# Altium footprint library PcbLib1.PcbLib: 54 footprints (part 4 of 4)
Each footprint in its own frame and in the unit in brackets; x right, y up, seen from the top. Pads: shape width x height; smd on the part's side, far side on the other; paste and mask are expansions set on the pad; w line width, h text height; cw(c..) or ccw(c..) is an arc to the next point about the centre after c.
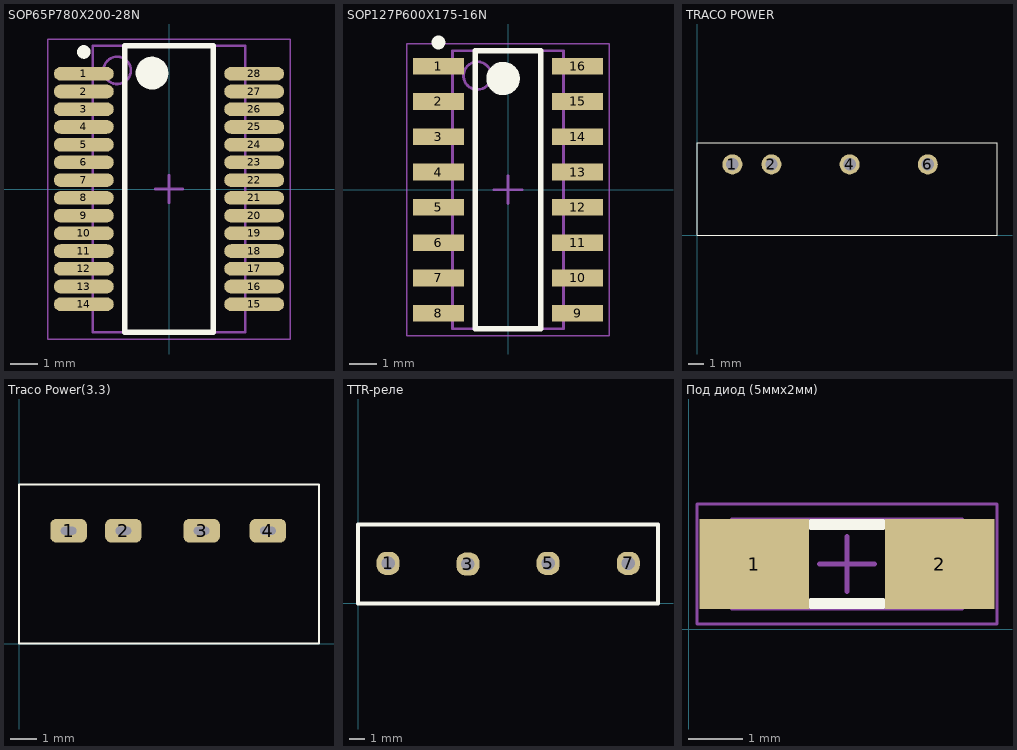
[diagram p3: the footprints below, top view; thin cyan lines are the x and y axes]

## SOP65P780X200-28N [mm] "SOP, 28-Leads, Body 10,20x5,30mm, Pitch 0,65mm, IPC Medium Density"
height 2
pads (28):
  oval 2.2x0.5 smd: 1(-3.125,4.225) 2(-3.125,3.575) 3(-3.125,2.925) 4(-3.125,2.275) 5(-3.125,1.625) 6(-3.125,0.975) 7(-3.125,0.325) 8(-3.125,-0.325) 9(-3.125,-0.975) 10(-3.125,-1.625) 11(-3.125,-2.275) 12(-3.125,-2.925) 13(-3.125,-3.575) 14(-3.125,-4.225) 15(3.125,-4.225) 16(3.125,-3.575) 17(3.125,-2.925) 18(3.125,-2.275) 19(3.125,-1.625) 20(3.125,-0.975) 21(3.125,-0.325) 22(3.125,0.325) 23(3.125,0.975) 24(3.125,1.625) 25(3.125,2.275) 26(3.125,2.925) 27(3.125,3.575) 28(3.125,4.225)
Top Overlay:
  circle w0.6: c-0.625,4.25 r0.3
  circle w0.25: c-3.125,5.025 r0.125
  lines w0.2: -1.625,-5.25 1.625,-5.25 1.625,5.25 -1.625,5.25 -1.625,-5.25
Mechanical 13:
  circle w0.1: c-1.9,4.35 r0.5
  lines w0.1: -2.8,-5.25 2.8,-5.25 2.8,5.25 -2.8,5.25 -2.8,-5.25
Mechanical 15:
  lines w0.05: -4.45,-5.5 4.45,-5.5 4.45,5.5 -4.45,5.5 -4.45,-5.5
  lines w0.1: -0.5,0 0.5,0 ; 0,-0.5 0,0.5
3D body: height 2, standoff 0.05, extent -2.8,-5.25 2.8,5.25

## SOP127P600X175-16N [mm] "SOP, 16-Leads, Body 9,90x3,90mm, Pitch 1,27mm, IPC Medium Density"
height 1.75
pads (16):
  rect 1.85x0.6 smd: 1(-2.5,4.445) 2(-2.5,3.175) 3(-2.5,1.905) 4(-2.5,0.635) 5(-2.5,-0.635) 6(-2.5,-1.905) 7(-2.5,-3.175) 8(-2.5,-4.445) 9(2.5,-4.445) 10(2.5,-3.175) 11(2.5,-1.905) 12(2.5,-0.635) 13(2.5,0.635) 14(2.5,1.905) 15(2.5,3.175) 16(2.5,4.445)
Top Overlay:
  circle w0.25: c-2.5,5.295 r0.125
  circle w0.6: c-0.175,4 r0.3
  lines w0.2: -1.175,-5 -1.175,5 1.175,5 1.175,-5 -1.175,-5
Mechanical 13:
  circle w0.1: c-1.1,4.1 r0.5
  lines w0.1: -2,-5 -2,5 2,5 2,-5 -2,-5
Mechanical 15:
  lines w0.05: -3.65,-5.25 -3.65,5.25 3.65,5.25 3.65,-5.25 -3.65,-5.25
  lines w0.1: -0.5,0 0.5,0 ; 0,-0.5 0,0.5
3D body: height 1.75, standoff 0.1, extent -2,-5 2,5

## TRACO POWER [mm]
height 10.2
pads (4):
  round 1.3 hole 0.8: 1(2.3,4.6) 2(4.84,4.6) 4(9.92,4.6) 6(15,4.6)
Top Overlay:
  lines w0.08: 0,0 0,6 19.5,6 19.5,0 0,0

## Traco Power(3.3) [mm]
height 10.2
pads (4):
  rrect50% 1.4x0.9 hole 0.3 slot 0.6 at 0 deg: 1(1.9,4.325) 2(4,4.325) 3(7,4.325) 4(9.54,4.325)
Top Overlay:
  lines w0.08: 0,0 11.5,0 11.5,6.1 0,6.1 0,0

## TTR-реле [mm]
height 0.178
pads (4):
  rrect80% 1.45x1.45 hole 0.85: 1(1.905,2.54) 3(6.96,2.5) 5(12.04,2.54) 7(17.12,2.54)
Top Overlay:
  lines w0.254: 0,0 19,0 19,5.003 0.003,5.003 0,5 0,0

## Под диод (5ммх2мм) [mm]
pads (2):
  rect 2x1.65 smd: 1(1.2,1.2) 2(4.6,1.2)
Top Overlay:
  lines w0.2: 2.25,0.475 3.55,0.475 ; 2.25,1.925 3.55,1.925
Mechanical 13:
  lines w0.1: 0.8,0.4 5,0.4 5,2 0.8,2 0.8,0.4
Mechanical 15:
  lines w0.05: 0.15,0.1 5.65,0.1 5.65,2.3 0.15,2.3 0.15,0.1
  lines w0.1: 2.4,1.2 3.4,1.2 ; 2.9,0.7 2.9,1.7
3D body: height 0.85, standoff 0, extent 4.2,0.4 5,2
3D body: height 0.85, standoff 0, extent 0.8,0.4 1.6,2
3D body: height 0.85, standoff 0, extent 1.6,0.4 4.2,2